# EAGLE library part AT45DB011B (library IC)
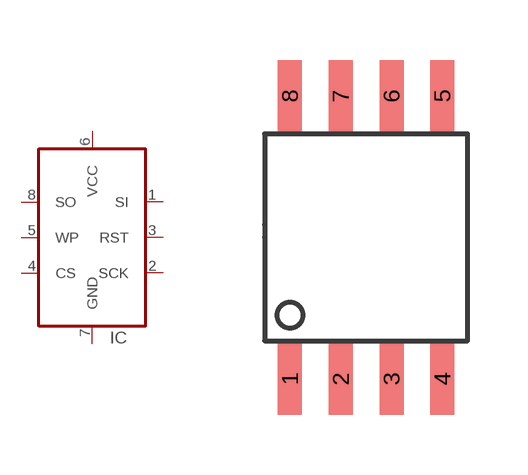
[diagram p39: symbol with the pads of SOIC8_EIAJ; footprint SOIC8_EIAJ]

Designator prefix IC

## AT45DB011BSOIC8  [SOIC8_EIAJ]
1  SI
2  SCK
3  RST
4  CS
5  WP
6  VCC  pwr
7  GND  pwr
8  SO

## Footprint SOIC8_EIAJ (pad centres in mm)
8 pin soic package 0.209" Body
smd 0.6 x 1.8: 1 -1.905,-3.54; 2 -0.635,-3.54; 3 0.635,-3.54; 4 1.905,-3.54; 5 1.905,3.54; 6 0.635,3.54; 7 -0.635,3.54; 8 -1.905,3.54